# EAGLE library part REF102 (library burr-brown)
10.0V Precision Voltage Reference
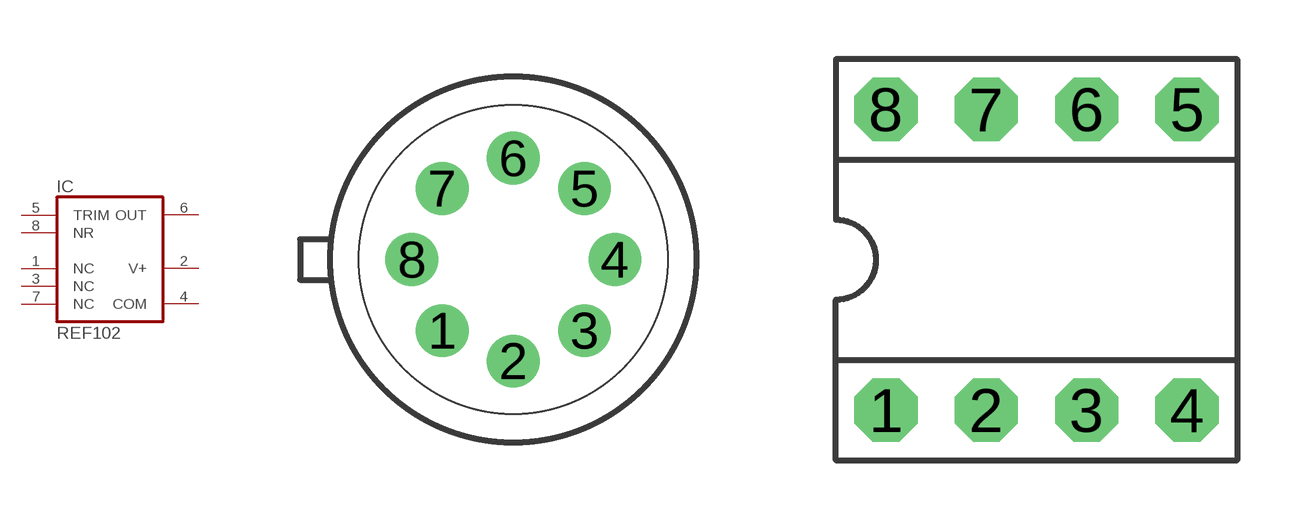
[diagram p93: symbol with the pads of TO99; footprints TO99, DIL08]

Designator prefix IC

## REF102M (OC_FARNELL: unknown; OC_NEWARK: unknown)  [TO99]
1  NC  nc
2  V+  pwr
3  NC  nc
4  COM  pwr
5  TRIM  pas
6  OUT  in
7  NC  nc
8  NR  pas

## REF102P (MF: TEXAS INSTRUMENTS; MPN: REF102AP; OC_FARNELL: 1097429; OC_NEWARK: 10M5244)  [DIL08]
Pads as for TO99

## REF102U (MF: TEXAS INSTRUMENTS; MPN: REF102AU; OC_FARNELL: 1212344; OC_NEWARK: 04M4600)  [SO08]
Pads as for TO99

## Footprint TO99 (pad centres in mm)
Metal can Package
drill 0.813: 1 -1.778,-1.778; 2 0,-2.54; 3 1.778,-1.778; 4 2.54,0; 5 1.778,1.778; 6 0,2.54; 7 -1.778,1.778; 8 -2.54,0

## Footprint DIL08 (pad centres in mm)
Dual In Line
drill 0.813 pad 1.6 octagon: 1 -3.81,-3.81; 2 -1.27,-3.81; 3 1.27,-3.81; 4 3.81,-3.81; 5 3.81,3.81; 6 1.27,3.81; 7 -1.27,3.81; 8 -3.81,3.81

## Footprint SO08 (pad centres in mm)
Small Outline Package
smd 0.61 x 2.21: 1 -1.905,-2.616; 2 -0.635,-2.616; 3 0.635,-2.616; 4 1.905,-2.616; 5 1.905,2.616; 6 0.635,2.616; 7 -0.635,2.616; 8 -1.905,2.616